# Altium schematic symbol library Transformers.SchLib: 1 symbol
Pins are listed as number, name and electrical type; pins without a type are passive.

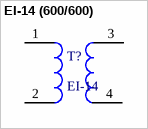
[diagram p0: symbol EI-14 (600/600)]

## EI-14 (600/600)
designator T?, comment EI-14
footprint EI-14
pins: 1, 2, 3, 4